# Altium integrated library MC000827.IntLib: 1 symbol
Pins are listed as number, name and electrical type; pins without a type are passive.

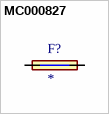
[diagram p0: symbol MC000827]

## MC000827
designator F?
Fuse Holder, 250 V, 6.3 A, Pcb Fuse Holder, Through Hole, 1; MF: Multicomp; MP: MC000827; Check_prices: https://www.snapeda.com/parts/MC000827/Multicomp/view-part/2895630/?ref=eda; Availability: Unavailable; Price: None; SnapEDA_Link: https://www.snapeda.com/parts/MC000827/Multicomp/view-part/2895630/?ref=snap; Package: None; Value: *
footprint MC000827
pins: P$1 1, P$2 2